# Altium schematic symbol library IFBschelib.SchLib: 126 symbols (part 2 of 2)
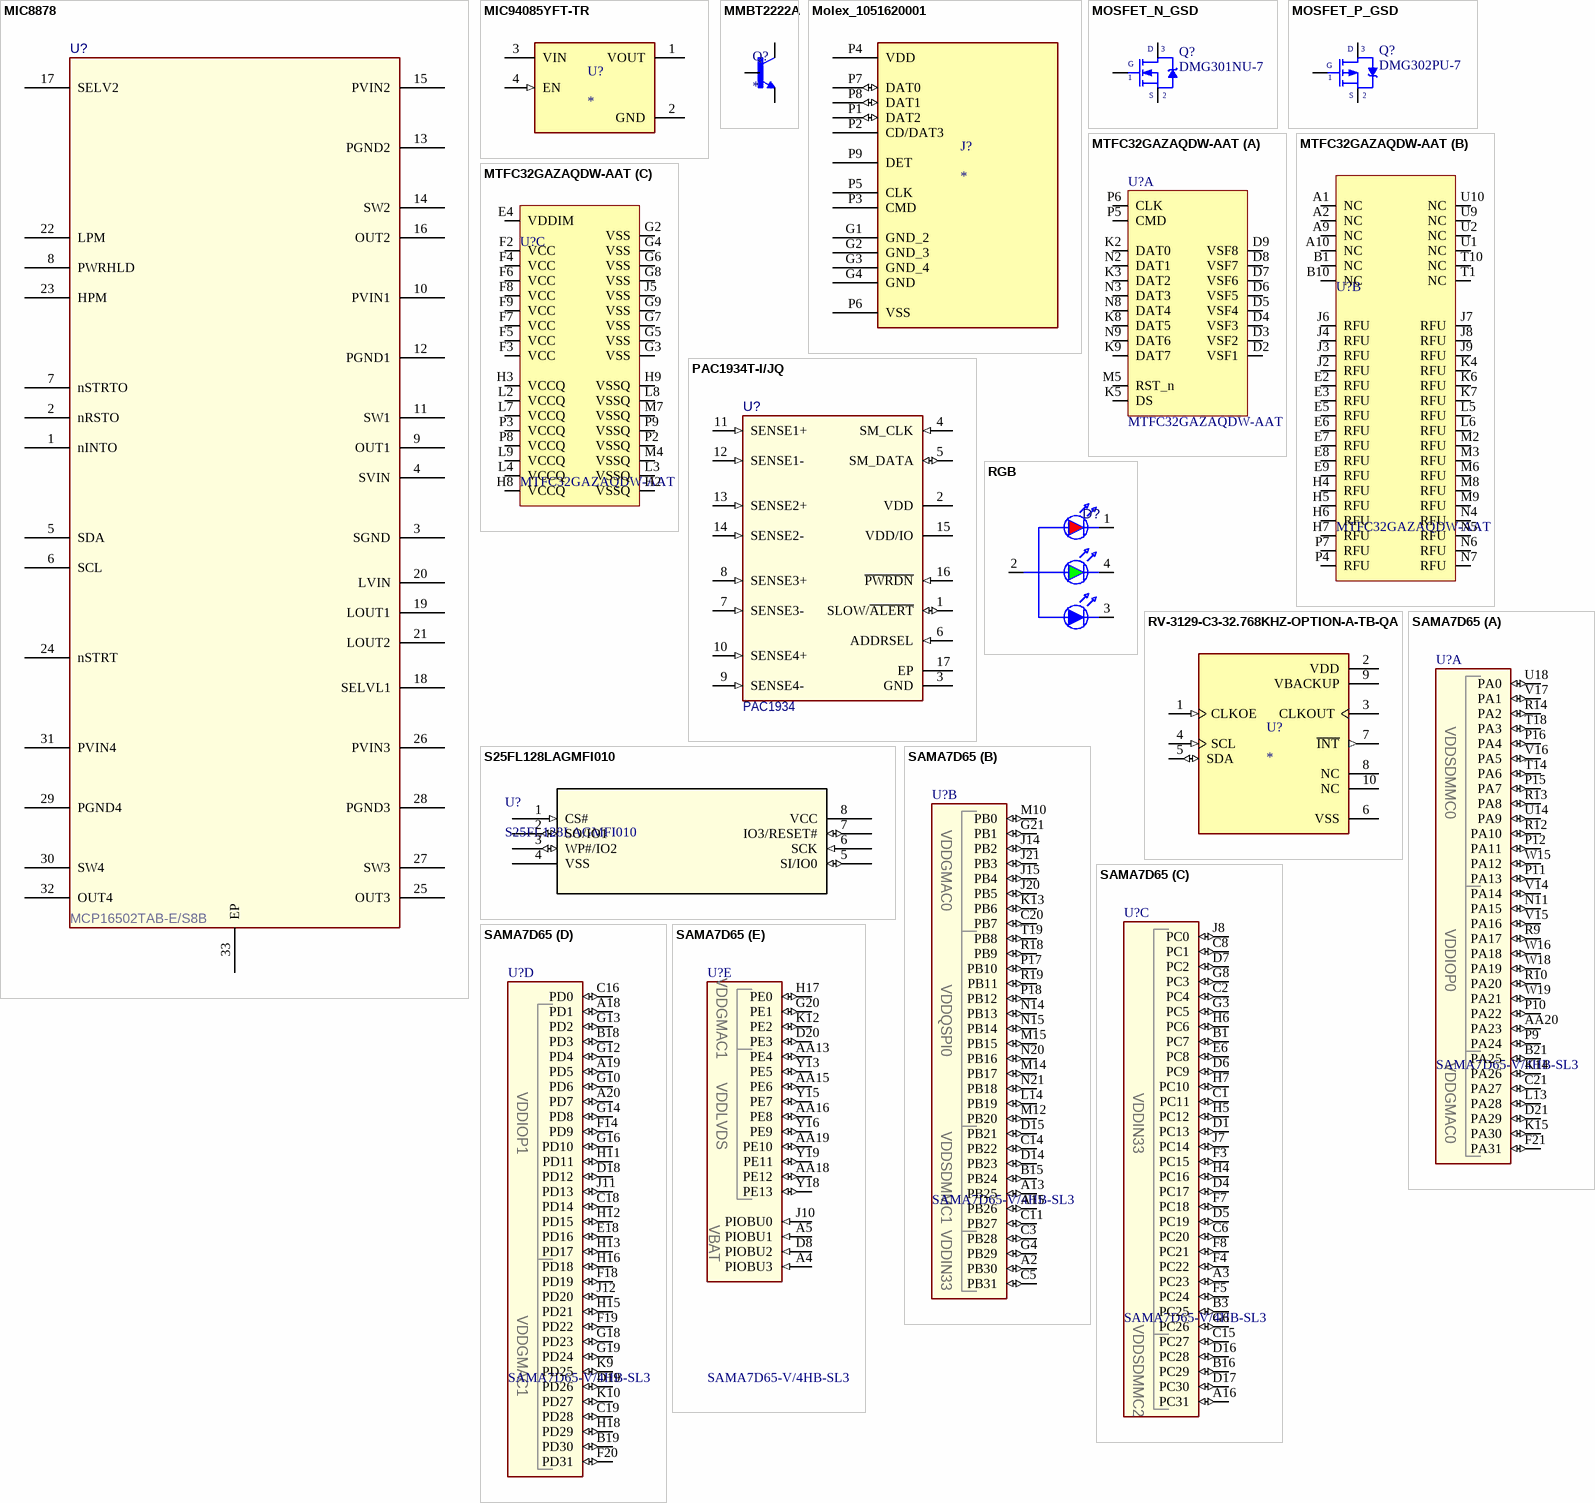
[diagram p5: symbols MIC8878 to SAMA7D65]

## PAC1934T-I/JQ
designator U?, comment value PAC1934  (hidden comment: Microchip PAC1934 UQFN-16)
IC CURRENT MONITOR 1% 16UQFN; Manufacturer 1: Microchip Technology; Manufacturer Part Number 1: PAC1934T-I/JQ; MCHP-ID: MIC7010; Description_: MCHP ANALOG POWER CURRENT SENSE MONITOR PAC1934T-I/JQ UQFN-16; Dev Tools Status: Production; Owner: Razvan Cristescu; Populated: YES; Restricted Sourcing: No; Symbol: PAC1934 UQFN-16; Type: Power/Current Sensor; Status: MCL Design; Revision: 2; Category: MCHP-Analog; ComponentLink1Description: SVN Datasheet; ComponentLink2Description: Local Datasheet; ComponentLink3URL: C:\ALTIUM_WORK\00001_MCHP-CDB\Library\LibraryRefs\PAC1934 UQFN-16.SchLib; ComponentLink3Description: Open Symbol; ComponentLink4URL: C:\ALTIUM_WORK\00001_MCHP-CDB\Library\Footprints\UQFN-16_4X4_EP2.6X2.6.PcbLib; ComponentLink4Description: Open Footprint; ComponentLink5Description: Open Footprint 2; ComponentLink6Description: Open Footprint 3; ComponentLink7Description: Open Footprint 4; Supplier 1: Microchip Technology; Supplier Part Number 1: PAC1934T-I/JQ; Quantity Override: 1; ComponentLink1URL: https://www.microchip.com/sitesearch/search/Product%20and%20Development%20Tools/PAC1934T-I/JQ; Operating Temperature: -40C to +85C
footprint UQFN-16_4X4_EP2.6X2.6
pins: 1 SLOW/~{ALERT} (io), 2 VDD (power), 3 GND (power), 4 SM_CLK (in), 5 SM_DATA (io), 6 ADDRSEL (in), 7 SENSE3- (in), 8 SENSE3+ (in), 9 SENSE4- (in), 10 SENSE4+ (in), 11 SENSE1+ (in), 12 SENSE1- (in), 13 SENSE2+ (in), 14 SENSE2- (in), 15 VDD/IO (power), 16 ~{PWRDN} (in), 17 EP
2 alternate drawings of the same symbol

## RGB
designator D?, comment LED_RGB_CLV1A  (value not drawn)
CLV1A-FKB-CK1VW1DE1BB7C3C3, LED RGB 4PLCC SMD; Manufacturer 1: Cree Inc.; MCHP-ID: DIODE1214; Value: RED, GREEN, BLUE; Description_: DIO LED TRI RED, GREEN, BLUE 2V, 3.2V, 3.2V 20mA, 20mA, 20mA SMD 4-PLCC; Dev Tools Status: Production; Type: LED Tricolor; Forward Current: 20mA, 20mA, 20mA; Power: 130mW, 100mW, 100mW; Reverse Current: 10uA; Reverse Voltage: 5V; Owner: Randolph Sobrepena; Populated: YES; Revision: 2; Symbol: LED_RGB_CLV1A; Status: MCL Design; Package: 4-PLCC; ComponentLink1URL: https://chn-vm-apps.microchip.com/mchprepo/parts/Datasheets/CLV1A-FKB_Rev5; ComponentLink1Description: SVN Datasheet; ComponentLink2URL: C:\ALTIUM_WORK\00001_MCHP-CDB\Datasheets\CLV1A-FKB_Rev5; ComponentLink2Description: Local Datasheet; ComponentLink3URL: C:\ALTIUM_WORK\00001_MCHP-CDB\Library\LibraryRefs\LED_RGB_CLV1A.SchLib; ComponentLink3Description: Open Symbol; ComponentLink4URL: C:\ALTIUM_WORK\00001_MCHP-CDB\Library\Footprints\PLCC-4_CLV1A-FKB.PcbLib; ComponentLink4Description: Open Footprint; ComponentLink5Description: Open Footprint 2; ComponentLink6Description: Open Footprint 3; ComponentLink7Description: Open Footprint 4; Operating Temperature: -40C - +100C; Category: Diode; Supplier 1: Digi-Key; Supplier Part Number 1: CLV1A-FKB-CK1VW1DE1BB7C3C3CT-ND; Quantity Override: 1; Manufacturer Part Number 1: CLV1A-FKB-CK1VW1DE1BB7C3C3
footprint PLCC-4_CLV1A-FKB
pins: 1 Kr, 2 A, 3 Kb, 4 Kg
1 alternate drawing of the same symbol

## RV-3129-C3-32.768KHZ-OPTION-A-TB-QA
designator U?
Real-Time Clock Module with I2C-Bus; MP: RV-3129-C3-32.768KHZ-OPTION-A-TB-QA; Value: *; Price: None; Package: None; Availability: Unavailable
footprint IC_RV-3129-C3-32.768KHZ-OPTION-A-TB-QA
pins: 1 CLKOE (in), 2 VDD (power), 3 CLKOUT, 4 SCL (in), 5 SDA (io), 6 VSS (power), 7 ~{INT} (out), 8 NC, 9 VBACKUP (power), 10 NC

## S25FL128LAGMFI010
designator U?
Description; Manufacturer_Name: Cypress Semiconductor; Copyright: Copyright (C) 2025 Ultra Librarian. All rights reserved.; Manufacturer_Part_Number: S25FL128LAGMFI010; RefDes: RefDes; Type: Type
footprint SOIC8_S25FL_CYP
pins: 1 CS# (in), 2 SO/IO1 (io), 3 WP#/IO2 (io), 4 VSS (power), 5 SI/IO0 (io), 6 SCK (in), 7 IO3/RESET# (io), 8 VCC (power)

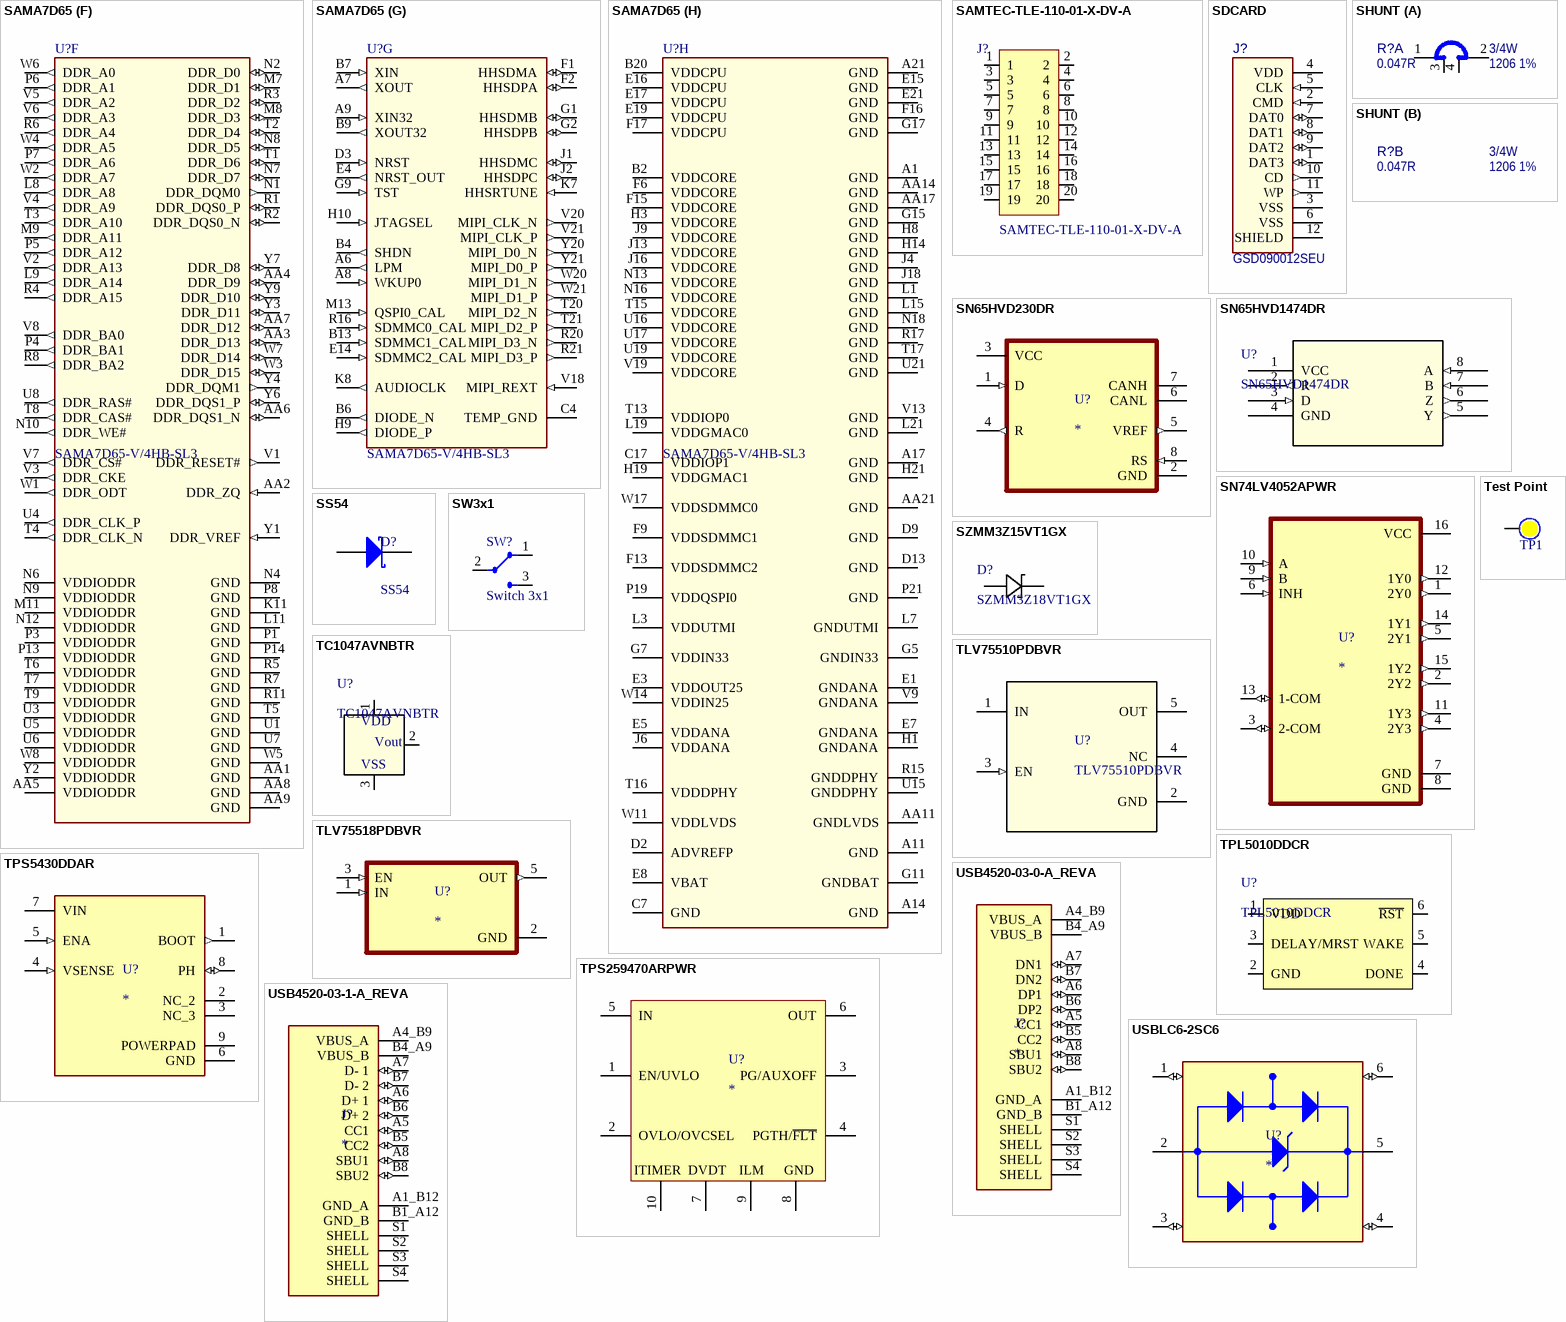
[diagram p4: symbols SAMA7D65 to USBLC6-2SC6]

## SAMA7D65
designator U?  value SAMA7D65-V/4HB-SL3  (hidden comment: SAMA7D65)
SAMA7D65 MPU 1000MHz Cortex-A7 TFBGA-343; Manufacturer 1: Microchip Technology; Description_: MCHP MPU 32-BIT Cortex-A7 1000MHz 128kB SAMA7D65-V/4HB-SL3 TFBGA-343; Populated: YES; MCHP-ID: IC2674; Symbol: SAMA7D65-TFBGA-343; Dev Tools Status: Design; Owner: Ciprian Abramov; Restricted Sourcing: No; Manufacturer Part Number 1: SAMA7D65-V/4HB-SL3; Type: 32-Bit MPU; Status: MCL Design; Revision: 1; Category: MCHP-Microcontroller; ComponentLink1URL: https://www.microchip.com/sitesearch/search/Product%20and%20Development%20Tools/SAMA7D65-V/4HB-SL3; ComponentLink1Description: SVN Datasheet; ComponentLink2Description: Local Datasheet; ComponentLink3URL: C:\ALTIUM_WORK\00001_MCHP-CDB\Library\LibraryRefs\SAMA7D65-TFBGA-343.SchLib; ComponentLink3Description: Open Symbol; ComponentLink4URL: C:\ALTIUM_WORK\00001_MCHP-CDB\Library\Footprints\TFBGA-343_14x14.PcbLib; ComponentLink4Description: Open Footprint; ComponentLink5Description: Open Footprint 2; ComponentLink6Description: Open Footprint 3; ComponentLink7Description: Open Footprint 4; Supplier 1: Microchip Technology; Supplier Part Number 1: SAMA7D65-V/4HB-SL3; Operating Temperature: -40C to +105C; Quantity Override: 1
footprint TFBGA-343_14x14 (BGA, 343-Leads, Body 14,00mm x14,00mm, Pitch 0,65mm)
part A pins: AA20 PA23 (io), B21 PA25 (io), C21 PA27 (io), D21 PA29 (io), F21 PA31 (io), K14 PA26 (io), K15 PA30 (io), L13 PA28 (io), N11 PA15 (io), P9 PA24 (io), P10 PA22 (io), P11 PA13 (io), P12 PA11 (io), P15 PA7 (io), P16 PA4 (io), R9 PA17 (io), R10 PA20 (io), R12 PA10 (io), R13 PA8 (io), R14 PA2 (io), T14 PA6 (io), T18 PA3 (io), U14 PA9 (io), U18 PA0 (io), V14 PA14 (io), V15 PA16 (io), V16 PA5 (io), V17 PA1 (io), W15 PA12 (io), W16 PA18 (io), W18 PA19 (io), W19 PA21 (io)
part B pins: A2 PB30 (io), A13 PB25 (io), A15 PB26 (io), B15 PB24 (io), C3 PB28 (io), C5 PB31 (io), C11 PB27 (io), C14 PB22 (io), C20 PB7 (io), D14 PB23 (io), D15 PB21 (io), G4 PB29 (io), G21 PB1 (io), J14 PB2 (io), J15 PB4 (io), J20 PB5 (io), J21 PB3 (io), K13 PB6 (io), L14 PB19 (io), M10 PB0 (io), M12 PB20 (io), M14 PB17 (io), M15 PB15 (io), N14 PB13 (io), N15 PB14 (io), N20 PB16 (io), N21 PB18 (io), P17 PB10 (io), P18 PB12 (io), R18 PB9 (io), R19 PB11 (io), T19 PB8 (io)
part C pins: A3 PC23 (io), A16 PC31 (io), B1 PC7 (io), B3 PC25 (io), B16 PC29 (io), C1 PC11 (io), C2 PC4 (io), C6 PC20 (io), C8 PC1 (io), C15 PC27 (io), D1 PC13 (io), D4 PC17 (io), D5 PC19 (io), D6 PC9 (io), D7 PC2 (io), D16 PC28 (io), D17 PC30 (io), E6 PC8 (io), F3 PC15 (io), F4 PC22 (io), F5 PC24 (io), F7 PC18 (io), F8 PC21 (io), G3 PC5 (io), G6 PC26 (io), G8 PC3 (io), H4 PC16 (io), H5 PC12 (io), H6 PC6 (io), H7 PC10 (io), J7 PC14 (io), J8 PC0 (io)
part D pins: A18 PD1 (io), A19 PD5 (io), A20 PD7 (io), B18 PD3 (io), B19 PD30 (io), C16 PD0 (io), C18 PD14 (io), C19 PD28 (io), D18 PD12 (io), D19 PD26 (io), E18 PD16 (io), F14 PD9 (io), F18 PD19 (io), F19 PD22 (io), F20 PD31 (io), G10 PD6 (io), G12 PD4 (io), G13 PD2 (io), G14 PD8 (io), G16 PD10 (io), G18 PD23 (io), G19 PD24 (io), H11 PD11 (io), H12 PD15 (io), H13 PD17 (io), H15 PD21 (io), H16 PD18 (io), H18 PD29 (io), J11 PD13 (io), J12 PD20 (io), K9 PD25 (io), K10 PD27 (io)
part E pins: A4 PIOBU3 (in), A5 PIOBU1 (in), AA13 PE4 (io), AA15 PE6 (io), AA16 PE8 (io), AA18 PE12 (io), AA19 PE10 (io), D8 PIOBU2 (in), D20 PE3 (io), G20 PE1 (io), H17 PE0 (io), J10 PIOBU0 (in), K12 PE2 (io), Y13 PE5 (io), Y15 PE7 (io), Y16 PE9 (io), Y18 PE13 (io), Y19 PE11 (io)
part F pins: AA1 GND (power), AA2 DDR_ZQ (in), AA3 DDR_D13 (io), AA4 DDR_D9 (io), AA5 VDDIODDR (power), AA6 DDR_DQS1_N (io), AA7 DDR_D12 (io), AA8 GND (power), AA9 GND (power), K11 GND (power), L8 DDR_A8 (out), L9 DDR_A14 (out), L11 GND (power), M7 DDR_D1 (io), M8 DDR_D3 (io), M9 DDR_A11 (out), M11 VDDIODDR (power), N1 DDR_DQM0 (out), N2 DDR_D0 (io), N4 GND (power), N6 VDDIODDR (power), N7 DDR_D7 (io), N8 DDR_D5 (io), N9 VDDIODDR (power), N10 DDR_WE# (out), N12 VDDIODDR (power), P1 GND (power), P3 VDDIODDR (power), P4 DDR_BA1 (out), P5 DDR_A12 (out), P6 DDR_A1 (out), P7 DDR_A6 (out), P8 GND (power), P13 VDDIODDR (power), P14 GND (power), R1 DDR_DQS0_P (io), R2 DDR_DQS0_N (io), R3 DDR_D2 (io), R4 DDR_A15 (out), R5 GND (power), R6 DDR_A4 (out), R7 GND (power), R8 DDR_BA2 (out), R11 GND (power), T1 DDR_D6 (io), T2 DDR_D4 (io), T3 DDR_A10 (out), T4 DDR_CLK_N (out), T5 GND (power), T6 VDDIODDR (power), T7 VDDIODDR (power), T8 DDR_CAS# (out), T9 VDDIODDR (power), U1 GND (power), U3 VDDIODDR (power), U4 DDR_CLK_P (out), U5 VDDIODDR (power), U6 VDDIODDR (power), U7 GND (power), U8 DDR_RAS# (out), V1 DDR_RESET# (out), V2 DDR_A13 (out), V3 DDR_CKE (out), V4 DDR_A9 (out), V5 DDR_A2 (out), V6 DDR_A3 (out), V7 DDR_CS# (out), V8 DDR_BA0 (out), W1 DDR_ODT (out), W2 DDR_A7 (out), W3 DDR_D15 (io), W4 DDR_A5 (out), W5 GND (power), W6 DDR_A0 (out), W7 DDR_D14 (io), W8 VDDIODDR (power), Y1 DDR_VREF (in), Y2 VDDIODDR (power), Y3 DDR_D11 (io), Y4 DDR_DQM1 (out), Y6 DDR_DQS1_P (io), Y7 DDR_D8 (io), Y9 DDR_D10 (io)
part G pins: A6 LPM (out), A7 XOUT (out), A8 WKUP0 (in), A9 XIN32 (in), B4 SHDN (out), B6 DIODE_N (out), B7 XIN (in), B9 XOUT32 (out), B13 SDMMC1_CAL (in), C4 TEMP_GND, D3 NRST (in), E4 NRST_OUT (out), E14 SDMMC2_CAL (in), F1 HHSDMA (io), F2 HHSDPA (io), G1 HHSDMB (io), G2 HHSDPB (io), G9 TST (in), H9 DIODE_P (out), H10 JTAGSEL (in), J1 HHSDMC (io), J2 HHSDPC (io), K7 HHSRTUNE (in), K8 AUDIOCLK (out), M13 QSPI0_CAL (in), R16 SDMMC0_CAL (in), R20 MIPI_D3_N (out), R21 MIPI_D3_P (out), T20 MIPI_D2_N (out), T21 MIPI_D2_P (out), V18 MIPI_REXT (in), V20 MIPI_CLK_N (out), V21 MIPI_CLK_P (out), W20 MIPI_D1_N (out), W21 MIPI_D1_P (out), Y20 MIPI_D0_N (out), Y21 MIPI_D0_P (out)
part H pins: A1 GND (power), A11 GND (power), A14 GND (power), A17 GND (power), A21 GND (power), AA11 GNDLVDS (power), AA14 GND (power), AA17 GND (power), AA21 GND (power), B2 VDDCORE (power), B20 VDDCPU (power), C7 GND (power), C17 VDDIOP1 (power), D2 ADVREFP (power), D9 GND (power), D13 GND (power), E1 GNDANA (power), E3 VDDOUT25 (power), E5 VDDANA (power), E7 GNDANA (power), E8 VBAT (power), E15 GND (power), E16 VDDCPU (power), E17 VDDCPU (power), E19 VDDCPU (power), E21 GND (power), F6 VDDCORE (power), F9 VDDSDMMC1 (power), F13 VDDSDMMC2 (power), F15 VDDCORE (power), F16 GND (power), F17 VDDCPU (power), G5 GNDIN33 (power), G7 VDDIN33 (power), G11 GNDBAT (power), G15 GND (power), G17 GND (power), H1 GNDANA (power), H3 VDDCORE (power), H8 GND (power), H14 GND (power), H19 VDDGMAC1 (power), H21 GND (power), J4 GND (power), J6 VDDANA (power), J9 VDDCORE (power), J13 VDDCORE (power), J16 VDDCORE (power), J18 GND (power), L1 GND (power), L3 VDDUTMI (power), L7 GNDUTMI (power), L15 GND (power), L19 VDDGMAC0 (power), L21 GND (power), N13 VDDCORE (power), N16 VDDCORE (power), N18 GND (power), P19 VDDQSPI0 (power), P21 GND (power), R15 GNDDPHY (power), R17 GND (power), T13 VDDIOP0 (power), T15 VDDCORE (power), T16 VDDDPHY (power), T17 GND (power), U15 GNDDPHY (power), U16 VDDCORE (power), U17 VDDCORE (power), U19 VDDCORE (power), U21 GND (power), V9 GNDANA (power), V13 GND (power), V19 VDDCORE (power), W11 VDDLVDS (power), W14 VDDIN25 (power), W17 VDDSDMMC0 (power)

## SAMTEC-TLE-110-01-X-DV-A
designator J?  value SAMTEC-TLE-110-01-X-DV-A
Availability: Unavailable; MP: SAMTEC-TLE-110-01-X-DV-A; Price: None; Package: None
footprint SAMTEC-TLE-110-01-X-DV-A
pins: 1, 2, 3, 4, 5, 6, 7, 8, 9, 10, 11, 12, 13, 14, 15, 16, 17, 18, 19, 20

## SDCARD
designator J?, comment Manufacturer Part Number 1: GSD090012SEU  (hidden comment: SD-114-00841-68)
Manufacturer 1: Amphenol ICC (Commercial Products); MCHP-ID: CON2490; Value: SD Card 11P Receptacle; Symbol: CON SD CARD 11P_amphenol; Description_: CON FLASH SD 9+2P PUSH-PUSH SMD R/A; Dev Tools Status: Production; Owner: Ciprian Abramov; Populated: YES; Voltage: 5V; Current: 0.5A; Restricted Sourcing: No; Revision: 2; Status: MCL Design; ComponentLink1URL: https://chn-vm-apps.microchip.com/mchprepo/parts/Datasheets/gsd09001xseu.pdf; ComponentLink1Description: SVN Datasheet; ComponentLink2URL: C:\ALTIUM_WORK\00001_MCHP-CDB\Datasheets\gsd09001xseu.pdf; ComponentLink2Description: Local Datasheet; ComponentLink3URL: C:\ALTIUM_WORK\00001_MCHP-CDB\Library\LibraryRefs\CON SD CARD 11P_amphenol.SchLib; ComponentLink3Description: Open Symbol; ComponentLink4URL: C:\ALTIUM_WORK\00001_MCHP-CDB\Library\Footprints\CON_SD_GSD090012SEU.PcbLib; ComponentLink4Description: Open Footprint; ComponentLink5Description: Open Footprint 2; ComponentLink6Description: Open Footprint 3; ComponentLink7Description: Open Footprint 4; Type: Flash Card; Category: Connector; Supplier 1: Digi-Key; Supplier Part Number 1: 664-GSD090012SEUCT-ND; Quantity Override: 1; Operating Temperature: -40C to +90C; Assembly Type: SMD
footprint CON_SD_GSD090012SEU
pins: 1 DAT3 (io), 2 CMD (in), 3 VSS (power), 4 VDD (power), 5 CLK (in), 6 VSS (power), 7 DAT0 (io), 8 DAT1 (io), 9 DAT2 (io), 10 CD (out), 11 WP (out), 12 SHIELD

## SHUNT
designator R?, comment value 0.047R  Package: 1206  Tolerance: 1%  Power: 3/4W  (hidden comment: Shunt 4 Pin)
Shunt Resistor, RES 0.047 OHM 1% 3/4W 1206; Manufacturer 1: SUSUMU; Manufacturer Part Number 1: KRL1632E-M-R047-F-T5; MCHP-ID: RSMT1405; Description_: RES SHUNT MF 0.047R 1% 3/4W SMD 1206; Dev Tools Status: Design; Current: 4A; Owner: Ciprian Abramov; Populated: YES; Temperature Coefficient: ±50ppm/C; Restricted Sourcing: No; Revision: 1; Symbol: Shunt 4 Pin; Status: MCL Design; ComponentLink1URL: https://chn-vm-apps.microchip.com/mchprepo/parts/Datasheets/n_catalog_partition09_en.pdf; ComponentLink1Description: SVN Datasheet; ComponentLink2URL: C:\ALTIUM_WORK\00001_MCHP-CDB\Datasheets\n_catalog_partition09_en.pdf; ComponentLink2Description: Local Datasheet; ComponentLink3URL: C:\ALTIUM_WORK\00001_MCHP-CDB\Library\LibraryRefs\Shunt 4 Pin.SchLib; ComponentLink3Description: Open Symbol; ComponentLink4URL: C:\ALTIUM_WORK\00001_MCHP-CDB\Library\Footprints\RES_C_1206_SHUNT.PcbLib; ComponentLink4Description: Open Footprint; ComponentLink5Description: Open Footprint 2; ComponentLink6Description: Open Footprint 3; ComponentLink7Description: Open Footprint 4; Operating Temperature: -55C to 155C; Category: Resistor; Type: Shunt; Composition: MF; Supplier 1: Digi-Key; Supplier Part Number 1: 408-1578-2-ND; Quantity Override: 1
footprint RES_C_1206_SHUNT (Chip Resistor, 2-Leads, Body 3.2x1.6mm, IPC Medium Density)
part A pins: 1, 2, 3, 4

## SN65HVD230DR
designator U?
3.3 V CAN Transceiver with Standby Mode; MF: Texas Instruments; MP: SN65HVD230DR; SnapEDA_Link: https://www.snapeda.com/parts/SN65HVD230DR/Texas+Instruments/view-part/?ref=snap; Package: SOIC-8 Texas Instruments; Value: *; Check_prices: https://www.snapeda.com/parts/SN65HVD230DR/Texas+Instruments/view-part/?ref=eda
footprint SOIC127P599X175-8N (SN65HVD230DR)
pins: 1 D (in), 2 GND (power), 3 VCC (power), 4 R (out), 5 VREF (out), 6 CANL, 7 CANH, 8 RS (in)

## SN65HVD1474DR
designator U?
3.3V, Full-Duplex RS-485, 16kV IEC ESD, 20Mbps data rate, No Enables 8-SOIC -40 to 125; Manufacturer_Name: Texas Instruments; Copyright: Copyright (C) 2026 Ultra Librarian. All rights reserved.; Manufacturer_Part_Number: SN65HVD1474DR; Datasheet: https://www.ti.com/lit/gpn/sn65hvd1474; Digi-Key_Part_Number_1: 296-40507-1-ND; Digi-Key_Part_Number_2: 296-40507-2-ND; Digi-Key_Part_Number_3: 296-40507-6-ND; Digi-Key_Part_Number_4: SN65HVD1474DR-ND; RefDes: RefDes; Type: Type
footprint D8_TEX
pins: 1 VCC (power), 2 R (out), 3 D (in), 4 GND (power), 5 Y (out), 6 Z (out), 7 B (in), 8 A (in)

## SN74LV4052APWR
designator U?
5-V, 4:1, 2-channel analog multiplexer; MF: Texas Instruments; MP: SN74LV4052APWR; SnapEDA_Link: https://www.snapeda.com/parts/SN74LV4052APWR/Texas+Instruments/view-part/?ref=snap; Package: TSSOP-16 Texas Instruments; Value: *; Check_prices: https://www.snapeda.com/parts/SN74LV4052APWR/Texas+Instruments/view-part/?ref=eda
footprint SOP65P640X120-16N
pins: 1 2Y0 (out), 2 2Y2 (out), 3 2-COM (io), 4 2Y3 (out), 5 2Y1 (out), 6 INH (in), 7 GND (power), 8 GND (power), 9 B (in), 10 A (in), 11 1Y3 (out), 12 1Y0 (out), 13 1-COM (io), 14 1Y1 (out), 15 1Y2 (out), 16 VCC (power)

## SS54
designator D?
DIODE SCHOTTKY 40V 5A SMA; MPN: SS34; Solder: SMT; Value: SS34; MFR: *
footprint DO-214AC_SMA (Molded Diode, 2-Leads, Body 5.20x2.61mm, IPC Medium Density)
pins: 1 A, 2 K

## SW3x1
designator SW?, comment Switch 3x1
Value: Switch 4x2
footprint SS12D10
pins: 1, 2, 3 I/O2

## SZMM3Z15VT1GX
designator D?, comment SZMM3Z18VT1GX
DIODE ZENER 15V 300MW SOD323; Manufacturer_Name: Nexperia; Copyright: Copyright (C) 2026 Ultra Librarian. All rights reserved.; Manufacturer_Part_Number: SZMM3Z18VT1GX
footprint ZDO_SOD223-SC-76_NEX
pins: 1, 2

## TC1047AVNBTR
designator U?
No Description Available; Manufacturer_Name: Microchip; Copyright: Copyright (C) 2025 Ultra Librarian. All rights reserved.; Manufacturer_Part_Number: TC1047AVNBTR; RefDes: RefDes; Type: Type
footprint SOT-23_MC_MCH
pins: 1 VDD, 2 VOUT, 3 VSS
text: Vout

## Test Point
designator TP1  (no BOM)
Test Point; Solder: NF
footprint Test point
pins: 0

## TLV75510PDBVR
designator U?
500mA high-PSRR low-I<sub>Q</sub> low-dropout voltage regulator with enable 5-SOT-23 -40 to 125; Manufacturer_Name: Texas Instruments; TYPE: TYPE; RefDes: RefDes; Copyright: Copyright (C) 2025 Ultra Librarian. All rights reserved.; Manufacturer_Part_Number: TLV75510PDBVR
footprint DBV0005A_N
pins: 1 IN (power), 2 GND (power), 3 EN (in), 4 NC, 5 OUT (power)

## TLV75518PDBVR
designator U?
500-mA high-PSRR low-IQ low-dropout voltage regulator with enable; MF: Texas Instruments; MP: TLV75518PDBVR; SnapEDA_Link: https://www.snapeda.com/parts/TLV75518PDBVR/Texas+Instruments/view-part/?ref=snap; Package: SOT-23-5 Texas Instruments; Value: *; Check_prices: https://www.snapeda.com/parts/TLV75518PDBVR/Texas+Instruments/view-part/?ref=eda
footprint SOT95P280X145-5N
pins: 1 IN (in), 2 GND (power), 3 EN (in), 5 OUT (out)

## TPL5010DDCR
designator U?
OSC PROG TIMER TSOT23-6
footprint TPL5010DDCR
pins: 1 VDD, 2 GND, 3 DELAY/MRST, 4 DONE, 5 WAKE, 6 ~{RST}

## TPS5430DDAR
designator U?
5.5V to 36V Input, 3A, 500kHz Step-Down Converter; MF: Texas Instruments; MP: TPS5430DDAR; Package: HSOIC-8 Texas Instruments; Check_prices: https://www.snapeda.com/parts/TPS5430DDAR/Texas+Instruments/view-part/?ref=eda; Value: *; Purchase-URL: https://pricing.snapeda.com/search/part/TPS5430DDAR/?ref=eda; Availability: In Stock; SnapEDA_Link: https://www.snapeda.com/parts/TPS5430DDAR/Texas+Instruments/view-part/?ref=snap; Price: None
footprint CONV_TPS5430DDAR (IC REG BUCK ADJ 3A 8SOPWR)
pins: 1 BOOT (out), 2 NC_2, 3 NC_3, 4 VSENSE (in), 5 ENA (in), 6 GND (power), 7 VIN (power), 8 PH (io), 9 POWERPAD (power)

## TPS259470ARPWR
designator U?
footprint VQFN-HR-10
pins: 1 EN/UVLO, 2 OVLO/OVCSEL, 3 PG/AUXOFF, 4 PGTH/~{FLT}, 5 IN, 6 OUT, 7 DVDT, 8 GND, 9 ILM, 10 ITIMER

## USB4520-03-0-A_REVA
designator J?
USB-C (USB TYPE-C) USB 2.0 Receptacle Connector 24 (16+8 Dummy) Position Board Edge, Cutout; Surface Mount; Through Hole, Right Angle; MF: Global Connector Technology; MP: USB4520-03-0-A; SnapEDA_Link: https://www.snapeda.com/parts/USB4520-03-0-A/Global+Connector+Technology/view-part/?ref=snap; Package: None; Value: *; Check_prices: https://www.snapeda.com/parts/USB4520-03-0-A/Global+Connector+Technology/view-part/?ref=eda
footprint GCT_USB4520-03-0-A_REVA
pins: A1_B12 GND_A (power), A4_B9 VBUS_A (power), A5 CC1 (io), A6 DP1 (io), A7 DN1 (io), A8 SBU1 (io), B1_A12 GND_B (power), B4_A9 VBUS_B (power), B5 CC2 (io), B6 DP2 (io), B7 DN2 (io), B8 SBU2 (io), S1 SHELL (power), S2 SHELL (power), S3 SHELL (power), S4 SHELL (power)

## USB4520-03-1-A_REVA
designator J?
USB-C (USB TYPE-C) USB 2.0 Receptacle Connector 24 (16+8 Dummy) Position Board Edge, Cutout; Surface Mount; Through Hole, Right Angle; MF: Global Connector Technology; MP: USB4520-03-1-A; SnapEDA_Link: https://www.snapeda.com/parts/USB4520-03-1-A/Global+Connector+Technology/view-part/?ref=snap; Package: None; Value: *; Check_prices: https://www.snapeda.com/parts/USB4520-03-1-A/Global+Connector+Technology/view-part/?ref=eda
footprint GCT_USB4520-03-1-A_REVA
pins: A1_B12 GND_A (power), A4_B9 VBUS_A (power), A5 CC1 (io), A6 D+ 1 (io), A7 D- 1 (io), A8 SBU1 (io), B1_A12 GND_B (power), B4_A9 VBUS_B (power), B5 CC2 (io), B6 D+ 2 (io), B7 D- 2 (io), B8 SBU2 (io), S1 SHELL (power), S2 SHELL (power), S3 SHELL (power), S4 SHELL (power)

## USBLC6-2SC6
designator U?
17V Clamp 5A (8/20Âµs) Ipp Tvs Diode Surface Mount SOT-23-6; MF: STMicroelectronics; MP: USBLC6-2SC6; Value: *; SnapEDA_Link: https://www.snapeda.com/parts/USBLC6-2SC6/STMicroelectronics/view-part/?ref=snap; Check_prices: https://www.snapeda.com/parts/USBLC6-2SC6/STMicroelectronics/view-part/?ref=eda; Purchase-URL: https://pricing.snapeda.com/search/part/USBLC6-2SC6/?ref=eda; Price: None; Availability: In Stock; Package: SOT-23-6 STMicroelectronics
footprint SOT95P280X145-6N
pins: 1 I/O1_IN (io), 2 GND (power), 3 I/O2_IN (io), 4 I/O2_OUT (io), 5 VBUS (power), 6 I/O1_OUT (io)